# Altium footprint library L20.PcbLib: 1 footprints
Each footprint in its own frame and in the unit in brackets; x right, y up, seen from the top. Pads: shape width x height; smd on the part's side, far side on the other; paste and mask are expansions set on the pad; w line width, h text height; cw(c..) or ccw(c..) is an arc to the next point about the centre after c.
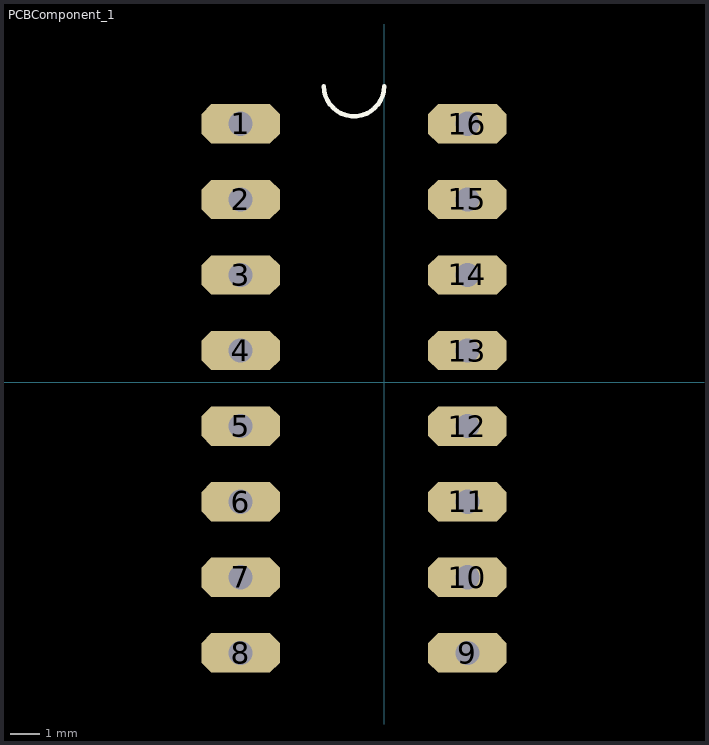
[diagram p0: the footprint, top view; thin cyan lines are the x and y axes]

## PCBComponent_1 [mil]
pads (16):
  oct 104x52 hole 32: 1(-190,342) 2(-190,242) 3(-190,142) 4(-190,42) 5(-190,-58) 6(-190,-158) 7(-190,-258) 8(-190,-358) 9(110,-358) 10(110,-258) 11(110,-158) 12(110,-58) 13(110,42) 14(110,142) 15(110,242) 16(110,342)
Top Overlay:
  lines w6: -80,392 ccw(c-40,392) 0,392